# Altium footprint library USB1135.PcbLib: 1 footprints
Each footprint in its own frame and in the unit in brackets; x right, y up, seen from the top. Pads: shape width x height; smd on the part's side, far side on the other; paste and mask are expansions set on the pad; w line width, h text height; cw(c..) or ccw(c..) is an arc to the next point about the centre after c.
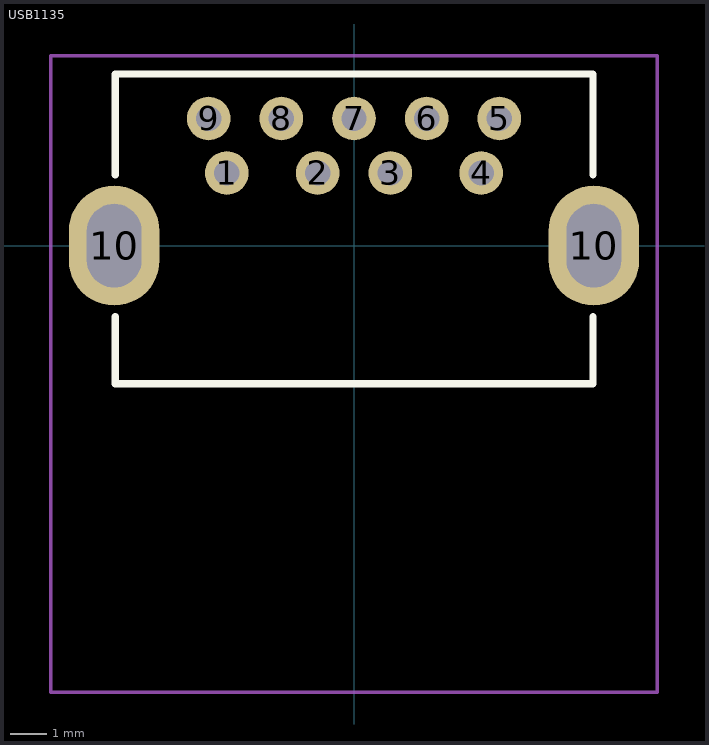
[diagram p0: the footprint, top view; thin cyan lines are the x and y axes]

## USB1135 [mm]
pads (11):
  round 1.2 hole 0.7: 1(-3.5,2) 2(-1,2) 3(1,2) 4(3.5,2) 5(4,3.5) 6(2,3.5) 7(0,3.5) 8(-2,3.5) 9(-4,3.5)
  oval 2.5x3.3 hole 2.3 slot 1.5 at 0 deg: 10(-6.6,0) 10(6.6,0)
Top Overlay:
  lines w0.2: -6.575,-1.95 -6.575,-3.8 6.575,-3.8 6.575,-1.95 ; -6.575,1.95 -6.575,4.725 6.575,4.725 6.575,1.95
Top Courtyard:
  lines w0.1: -8.35,-12.29 -8.35,5.225 8.35,5.225 8.35,-12.29 -7.732,-12.29 -8.35,-12.29
3D body "USB1135-15-9-L-B.stp": height 7.56, standoff -3.84, extent -7.735,-11.784 7.735,4.725